# EAGLE library part G2RL-1A-E_DC12 (library ds_passive)
12V 16A One Normally Open: 1A (SPST-NO) DIP,12.5x28.8mm Power Relays ROHS
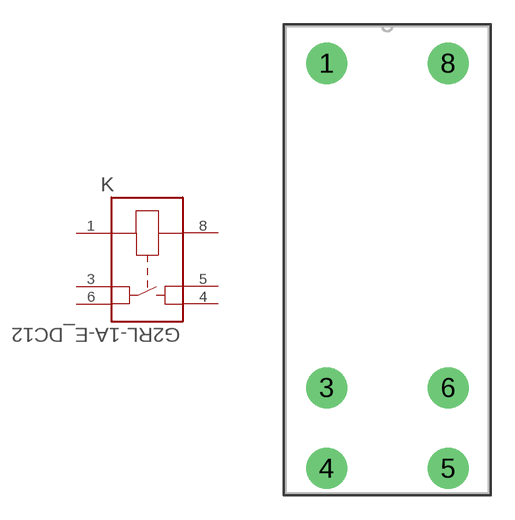
[diagram p0: symbol with the pads of RELAY_G2RL-1A-E_DC5_OMR; footprint RELAY_G2RL-1A-E_DC5_OMR]

Designator prefix K

## G2RL-1A-E_DC12 (DESCRIPTION: 12V 16A One Normally Open: 1A (SPST-NO) DIP,12.5x28.8mm Power Relays ROHS; LCSC_PART: C1564126; MANUFACTURER: Omron; MPN: G2RL-1A-E DC12; ROHS: YES; VALUE: G2RL-1A-E DC12)  [RELAY_G2RL-1A-E_DC5_OMR]
1  1  pas
3  3  pas
4  4  pas
5  5  pas
6  6  pas
8  8  pas

## Footprint RELAY_G2RL-1A-E_DC5_OMR (pad centres in mm)
drill 1.295 pad 2.54: 1 -3.683,12.776; 3 -3.683,-7.239; 4 -3.683,-12.217; 5 3.81,-12.217; 6 3.81,-7.239; 8 3.81,12.776